# Altium footprint library GeneralComponents.PcbLib: 9 footprints
Each footprint in its own frame and in the unit in brackets; x right, y up, seen from the top. Pads: shape width x height; smd on the part's side, far side on the other; paste and mask are expansions set on the pad; w line width, h text height; cw(c..) or ccw(c..) is an arc to the next point about the centre after c.
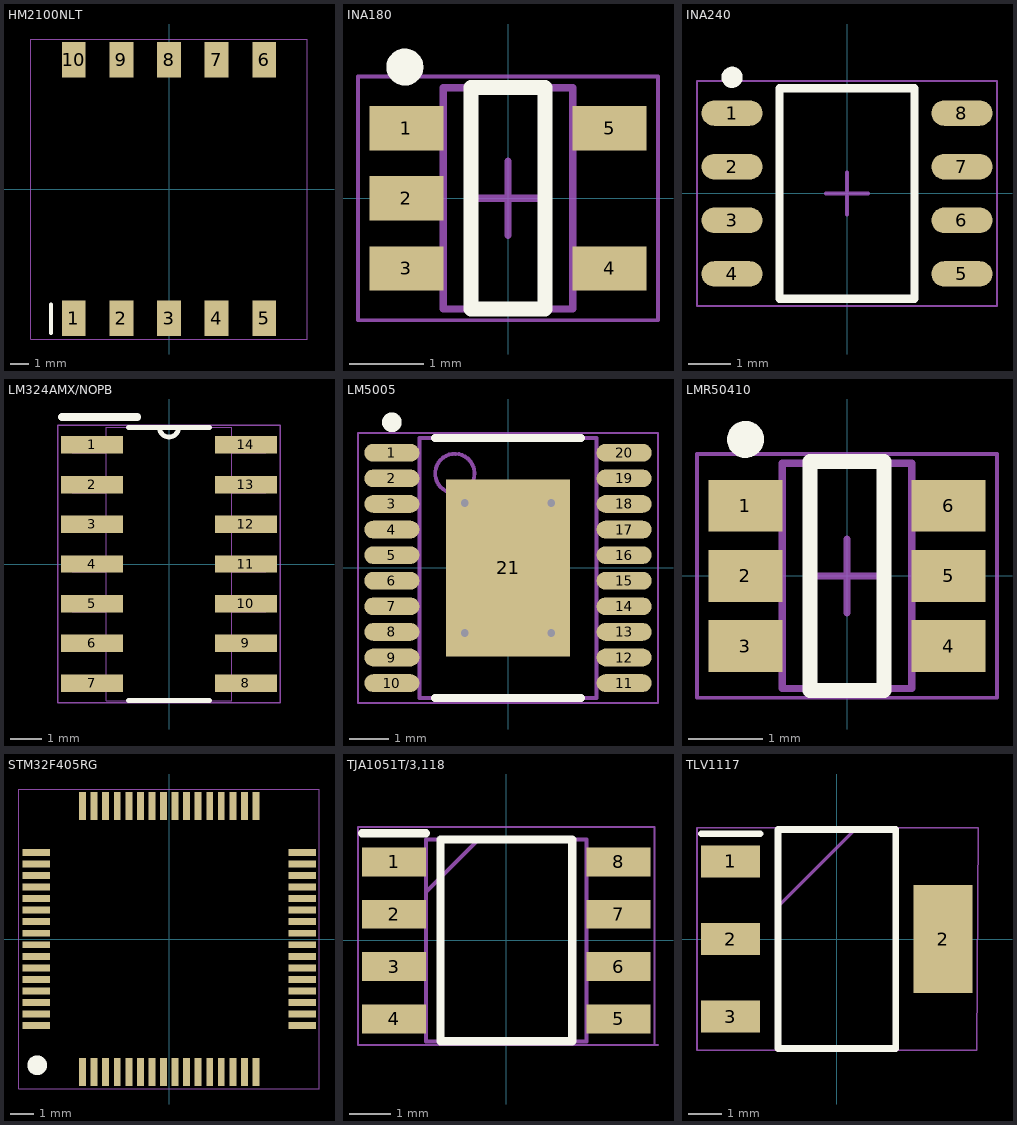
[diagram p0: the footprints below, top view; thin cyan lines are the x and y axes]

## HM2100NLT [mm]
height 3.45
pads (10):
  rect 1.27x1.89 smd: 1(-5.08,-6.895) 2(-2.54,-6.895) 3(0,-6.895) 4(2.54,-6.895) 5(5.08,-6.895) 6(5.08,6.895) 7(2.54,6.895) 8(0,6.895) 9(-2.54,6.895) 10(-5.08,6.895)
Top Overlay:
  lines w0.2: -6.288,-7.691 -6.288,-6.141
Mechanical 15:
  lines w0.05: -7.366,-8.001 -7.366,8.001 7.366,8.001 7.366,-8.001 -7.366,-8.001
3D body "HM2100NL.STEP": height 3.2, standoff -0.05, extent -7.35,-7.483 7.35,7.482

## INA180 [mm] "SOT23, 5-Leads, Body 2.80x2.80mm, Pitch 0.95mm, IPC Medium Density"
height 1.1
pads (5):
  rect 1x0.6 smd: 1(-1.375,0.95) 2(-1.375,0) 3(-1.375,-0.95) 4(1.375,-0.95) 5(1.375,0.95)
Top Overlay:
  circle w0.25: c-1.397,1.778 r0.125
  lines w0.2: -0.5,-1.5 0.5,-1.5 0.5,1.5 -0.5,1.5 -0.5,-1.5
Mechanical 13:
  lines w0.1: -0.875,-1.5 -0.875,1.5 0.875,1.5 0.875,-1.5 -0.875,-1.5
Mechanical 15:
  lines w0.05: -2.032,-1.651 -2.032,1.651 2.032,1.651 2.032,-1.651 -2.032,-1.651
  lines w0.1: -0.5,0 0.5,0 ; 0,-0.5 0,0.5
3D body: height 1.1, standoff 0.05, extent -0.875,-1.5 0.875,1.5

## INA240 [mm] "SOIC, 8-Leads, Body 4.91x3.90mm, Pitch 1.27mm, IPC Medium Density"
height 1.75
pads (8):
  oval 1.45x0.6 smd: 1(-2.725,1.905) 2(-2.725,0.635) 3(-2.725,-0.635) 4(-2.725,-1.905) 5(2.725,-1.905) 6(2.725,-0.635) 7(2.725,0.635) 8(2.725,1.905)
Top Overlay:
  circle w0.25: c-2.725,2.755 r0.125
  lines w0.2: -1.6,-2.5 1.6,-2.5 1.6,2.5 -1.6,2.5 -1.6,-2.5
Mechanical 15:
  lines w0.05: -3.556,-2.667 3.556,-2.667 3.556,2.667 -3.556,2.667 -3.556,-2.667
  lines w0.1: -0.5,0 0.5,0 ; 0,-0.5 0,0.5
3D body "SOIC-8_3.9x4.9mm_P1.27mm.step": height 1.75, standoff 0, extent -3,-2.45 3,2.45

## LM324AMX/NOPB [mil] "Gen Purp 4Ch Opamp"
pads (14):
  rect 78x22 smd: 1(-97,150) 2(-97,100) 3(-97,50) 4(-97,0) 5(-97,-50) 6(-97,-100) 7(-97,-150) 8(97,-150) 9(97,-100) 10(97,-50) 11(97,0) 12(97,50) 13(97,100) 14(97,150)
Top Overlay:
  lines w6: -50.89,-172 50.89,-172 ; -50.89,172 50.89,172 ; -12,172 ccw(c0,172) 12,172
  lines w10: -135,185 -40,185
Mechanical 13:
  lines w0: -12,172 ccw(c0,172) 12,172
  lines w1: -122,-160 -79,-160 -79,-140 -122,-140 -122,-160 ; -122,-110 -79,-110 -79,-90 -122,-90 -122,-110 ; -122,-60 -79,-60 -79,-40 -122,-40 -122,-60 ; -122,-10 -79,-10 -79,10 -122,10 -122,-10 ; -122,40 -79,40 -79,60 -122,60 -122,40 ; -122,90 -79,90 -79,110 -122,110 -122,90 ; -122,140 -79,140 -79,160 -122,160 -122,140 ; -79,-172 -79,172 79,172 79,-172 -79,-172 ; 79,-160 122,-160 122,-140 79,-140 79,-160 ; 79,-110 122,-110 122,-90 79,-90 79,-110 ; 79,-60 122,-60 122,-40 79,-40 79,-60 ; 79,-10 122,-10 122,10 79,10 79,-10 ; 79,40 122,40 122,60 79,60 79,40 ; 79,90 122,90 122,110 79,110 79,90 ; 79,140 122,140 122,160 79,160 79,140
Mechanical 15:
  lines w1.97: -140,-175 140,-175 140,175 -140,175 -140,-175
3D body: height 10, standoff 0, extent 0,0 10,10
3D body "M14A.step": height 69.09, standoff 0, extent -122,-172 122.01,172.01

## LM5005 [mm] "20-PowerTSSOP (0.173\"\", 4.40mm Width)"
height 1.1
pads (21):
  oval 1.4x0.45 smd: 1(-2.95,2.925) 2(-2.95,2.275) 3(-2.95,1.625) 4(-2.95,0.975) 5(-2.95,0.325) 6(-2.95,-0.325) 7(-2.95,-0.975) 8(-2.95,-1.625) 9(-2.95,-2.275) 10(-2.95,-2.925) 11(2.95,-2.925) 12(2.95,-2.275) 13(2.95,-1.625) 14(2.95,-0.975) 15(2.95,-0.325) 16(2.95,0.325) 17(2.95,0.975) 18(2.95,1.625) 19(2.95,2.275) 20(2.95,2.925)
  rect 3.15x4.5 smd: 21(0,0)
via 1.1,1.65 diameter 0.5 hole 0.2
via -1.1,-1.65 diameter 0.5 hole 0.2
via 1.1,-1.65 diameter 0.5 hole 0.2
via -1.1,1.65 diameter 0.5 hole 0.2
Top Overlay:
  circle w0.25: c-2.95,3.7 r0.125
  lines w0.2: -1.85,-3.3 1.85,-3.3 ; -1.85,3.3 1.85,3.3
Mechanical 13:
  circle w0.1: c-1.35,2.4 r0.5
  lines w0.1: -2.25,-3.3 -2.25,3.3 2.25,3.3 2.25,-3.3 -2.25,-3.3
Mechanical 15:
  lines w0.05: -3.81,-3.429 -3.81,3.429 3.81,3.429 3.81,-3.429 -3.81,-3.429
  lines w0.1: -0.5,0 0.5,0 ; 0,-0.5 0,0.5
3D body "LM5005.step": height 1.1, standoff 0, extent -3.2,-3.3 3.2,3.3

## LMR50410 [mm] "SOT23, 6-Leads, Body 2.90x2.80mm, Pitch 0.95mm, IPC Medium Density"
height 1.1
pads (6):
  rect 1x0.7 smd: 1(-1.375,0.95) 2(-1.375,0) 3(-1.375,-0.95) 4(1.375,-0.95) 5(1.375,0) 6(1.375,0.95)
Top Overlay:
  circle w0.25: c-1.375,1.85 r0.125
  lines w0.2: -0.5,-1.55 -0.5,1.55 0.5,1.55 0.5,-1.55 -0.5,-1.55
Mechanical 13:
  lines w0.1: -0.875,-1.525 0.875,-1.525 0.875,1.525 -0.875,1.525 -0.875,-1.525
Mechanical 15:
  lines w0.05: -2.032,-1.651 2.032,-1.651 2.032,1.651 -2.032,1.651 -2.032,-1.651
  lines w0.1: -0.5,0 0.5,0 ; 0,-0.5 0,0.5
3D body: height 1.1, standoff 0.05, extent -0.875,-1.525 0.875,1.525

## STM32F405RG [mm]
pads (64):
  rect 0.3x1.2 smd: 1(-3.75,-5.75) 2(-3.25,-5.75) 3(-2.75,-5.75) 4(-2.25,-5.75) 5(-1.75,-5.75) 6(-1.25,-5.75) 7(-0.75,-5.75) 8(-0.25,-5.75) 9(0.25,-5.75) 10(0.75,-5.75) 11(1.25,-5.75) 12(1.75,-5.75) 13(2.25,-5.75) 14(2.75,-5.75) 15(3.25,-5.75) 16(3.75,-5.75) 33(3.75,5.75) 34(3.25,5.75) 35(2.75,5.75) 36(2.25,5.75) 37(1.75,5.75) 38(1.25,5.75) 39(0.75,5.75) 40(0.25,5.75) 41(-0.25,5.75) 42(-0.75,5.75) 43(-1.25,5.75) 44(-1.75,5.75) 45(-2.25,5.75) 46(-2.75,5.75) 47(-3.25,5.75) 48(-3.75,5.75)
  rect 1.2x0.3 smd: 17(5.75,-3.75) 18(5.75,-3.25) 19(5.75,-2.75) 20(5.75,-2.25) 21(5.75,-1.75) 22(5.75,-1.25) 23(5.75,-0.75) 24(5.75,-0.25) 25(5.75,0.25) 26(5.75,0.75) 27(5.75,1.25) 28(5.75,1.75) 29(5.75,2.25) 30(5.75,2.75) 31(5.75,3.25) 32(5.75,3.75) 49(-5.75,3.75) 50(-5.75,3.25) 51(-5.75,2.75) 52(-5.75,2.25) 53(-5.75,1.75) 54(-5.75,1.25) 55(-5.75,0.75) 56(-5.75,0.25) 57(-5.75,-0.25) 58(-5.75,-0.75) 59(-5.75,-1.25) 60(-5.75,-1.75) 61(-5.75,-2.25) 62(-5.75,-2.75) 63(-5.75,-3.25) 64(-5.75,-3.75)
Top Overlay:
  circle w0.7: c-5.715,-5.461 r0.075
Mechanical 15:
  lines w0.05: -6.5,-6.477 -6.5,6.477 6.477,6.477 6.477,-6.477 -6.5,-6.477
3D body "LQFP-64_10x10mm_P0.5mm.step": height 1.5, standoff 0, extent -6,-6 6,6

## TJA1051T/3,118 [mm] "SOIC127P600X175-8N"
height 1.75
pads (8):
  rect 1.55x0.7 smd: 1(-2.725,1.905) 2(-2.725,0.635) 3(-2.725,-0.635) 4(-2.725,-1.905) 5(2.725,-1.905) 6(2.725,-0.635) 7(2.725,0.635) 8(2.725,1.905)
Top Overlay:
  lines w0.2: -3.5,2.605 -1.95,2.605 ; -1.6,-2.45 1.6,-2.45 1.6,2.45 -1.6,2.45 -1.6,-2.45
Mechanical 13:
  lines w0.1: -1.95,1.18 -0.68,2.45 ; -1.95,-2.45 1.95,-2.45 1.95,2.45 -1.95,2.45 -1.95,-2.45
Mechanical 15:
  lines w0.05: 3.6,-2.54 3.6,2.75 -3.6,2.75 -3.6,-2.54 3.683,-2.54
3D body "TJA1051T.stp": height 1.75, standoff 0, extent -3,-2.45 3,2.45

## TLV1117 [mm] "SOT230P700X180-4N"
height 1.8
pads (4):
  rect 1.75x0.95 smd: 1(-3.15,2.3) 2(-3.15,0) 3(-3.15,-2.3)
  rect 1.75x3.2 smd: 2(3.15,0)
Top Overlay:
  lines w0.2: -4.025,3.125 -2.275,3.125 ; -1.75,-3.25 1.75,-3.25 1.75,3.25 -1.75,3.25 -1.75,-3.25
Mechanical 13:
  lines w0.1: -1.75,0.95 0.55,3.25 ; -1.75,-3.25 1.75,-3.25 1.75,3.25 -1.75,3.25 -1.75,-3.25
Mechanical 15:
  lines w0.05: -4.15,-3.302 4.15,-3.302 4.191,3.302 -4.15,3.302 -4.15,-3.302
3D body "TLV1117-33CDCYR.stp": height 1.8, standoff 0, extent -3.5,-3.25 3.5,3.25